# EAGLE library part MP24833-AGN-Z (library MP24833-AGN-Z)
LED Lighting Drivers 3A 200kHz Internal Power MOSFET Source: Datasheet <https://www.monolithicpower.com/pub/media/document/MP24833-A_r1.01.pdf>
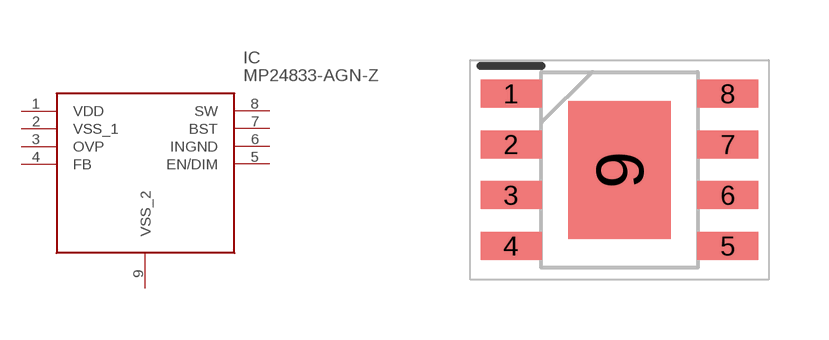
[diagram p0: symbol with the pads of SOIC127P600X170-9N; footprint SOIC127P600X170-9N]

Designator prefix IC

## MP24833-AGN-Z (Description: LED Lighting Drivers 3A 200kHz Internal Power MOSFET; Height: 1.7mm; Manufacturer_Name: Monolithic Power Systems (MPS); Manufacturer_Part_Number: MP24833-AGN-Z; Mouser_Part_Number: 946-MP24833-AGN-Z; Mouser_Price-Stock: https://www.mouser.co.uk/ProductDetail/Monolithic-Power-Systems-MPS/MP24833-AGN-Z?qs=cslStgdnz9M1gG6C9BalrA%3D%3D)  [SOIC127P600X170-9N]
1  VDD  pwr
2  VSS_1  pwr
3  OVP  in
4  FB  in
5  EN/DIM  in
6  INGND  pwr
7  BST
8  SW  out
9  VSS_2  pwr

## Footprint SOIC127P600X170-9N (pad centres in mm)
SOIC8E (EP)
smd 1.525 x 0.7: 1 -2.712,1.905; 2 -2.712,0.635; 3 -2.712,-0.635; 4 -2.712,-1.905; 5 2.712,-1.905; 6 2.712,-0.635; 7 2.712,0.635; 8 2.712,1.905
smd 2.56 x 3.45: 9 0,0